# Altium schematic symbol library ES3J.Schlib: 1 symbol
Pins are listed as number, name and electrical type; pins without a type are passive.

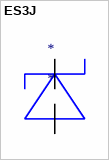
[diagram p0: symbol ES3J]

## ES3J
designator *
Diode Switching 600V 3A 2-Pin DO-214AB T/R
pins: IN, OUT